# EAGLE library part XR-2901J (library exar)
MICROCONTROLLER
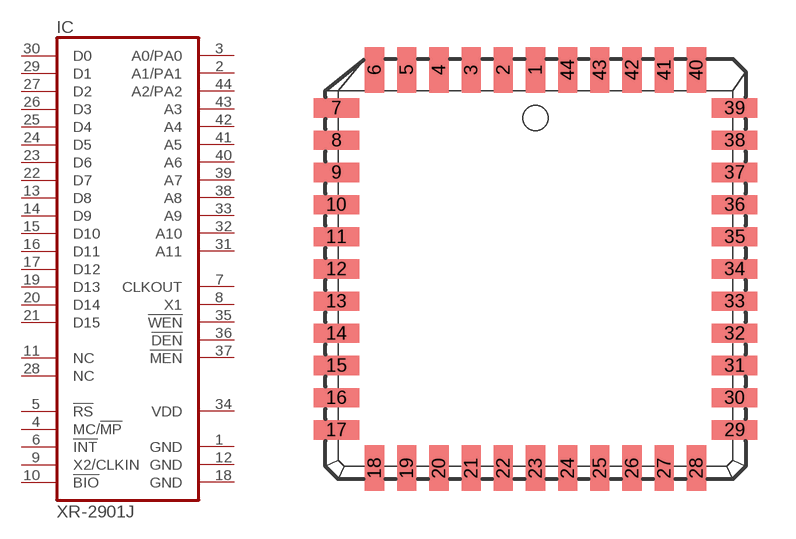
[diagram p59: symbol with the pads of PLCC44; footprint PLCC44]

Designator prefix IC

## XR-2901J  [PLCC44]
1  GND  pwr
2  A1/PA1
3  A0/PA0
4  MC/!MP  in
5  !RS  in
6  !INT  in
7  CLKOUT  out
8  X1  out
9  X2/CLKIN  in
10  !BIO  in
11  NC  nc
12  GND  pwr
13  D8
14  D9
15  D10
16  D11
17  D12
18  GND  pwr
19  D13
20  D14
21  D15
22  D7
23  D6
24  D5
25  D4
26  D3
27  D2
28  NC  nc
29  D1
30  D0
31  A11  out
32  A10  out
33  A9  out
34  VDD  pwr
35  !WEN  out
36  !DEN  out
37  !MEN  out
38  A8  out
39  A7  out
40  A6  out
41  A5  out
42  A4  out
43  A3  out
44  A2/PA2

## Footprint PLCC44 (pad centres in mm)
Plastic Leaded Chip Carrier
smd 0.76 x 1.8: 1 0,7.86; 2 -1.27,7.86; 3 -2.54,7.86; 4 -3.81,7.86; 5 -5.08,7.86; 6 -6.35,7.86; 18 -6.35,-7.86; 19 -5.08,-7.86; 20 -3.81,-7.86; 21 -2.54,-7.86; 22 -1.27,-7.86; 23 0,-7.86; 24 1.27,-7.86; 25 2.54,-7.86; 26 3.81,-7.86; 27 5.08,-7.86; 28 6.35,-7.86; 40 6.35,7.86; 41 5.08,7.86; 42 3.81,7.86; 43 2.54,7.86; 44 1.27,7.86
smd 1.8 x 0.76: 7 -7.86,6.35; 8 -7.86,5.08; 9 -7.86,3.81; 10 -7.86,2.54; 11 -7.86,1.27; 12 -7.86,0; 13 -7.86,-1.27; 14 -7.86,-2.54; 15 -7.86,-3.81; 16 -7.86,-5.08; 17 -7.86,-6.35; 29 7.86,-6.35; 30 7.86,-5.08; 31 7.86,-3.81; 32 7.86,-2.54; 33 7.86,-1.27; 34 7.86,0; 35 7.86,1.27; 36 7.86,2.54; 37 7.86,3.81; 38 7.86,5.08; 39 7.86,6.35